# Altium footprint library AtlasMCU_STM32.PcbLib: 1 footprints
Each footprint in its own frame and in the unit in brackets; x right, y up, seen from the top. Pads: shape width x height; smd on the part's side, far side on the other; paste and mask are expansions set on the pad; w line width, h text height; cw(c..) or ccw(c..) is an arc to the next point about the centre after c.
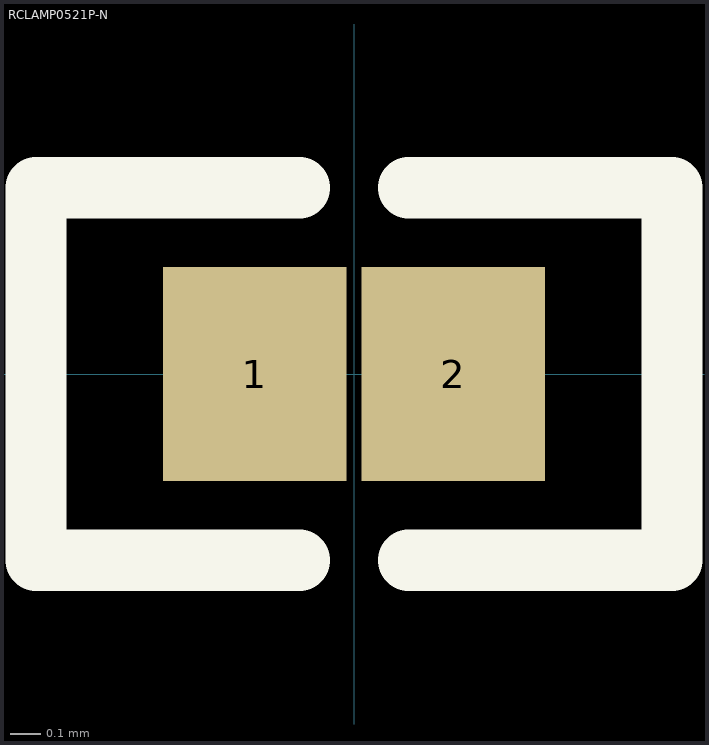
[diagram p0: the footprint, top view; thin cyan lines are the x and y axes]

## RCLAMP0521P-N [mm]
pads (2):
  rect 0.6x0.7 smd: 1(-0.325,0) 2(0.325,0)
Top Overlay:
  lines w0.2: -0.178,-0.61 -1.041,-0.61 -1.041,0.61 -0.178,0.61 ; 0.178,-0.61 1.041,-0.61 1.041,0.61 0.178,0.61